# EAGLE library part B6B-XH (library con-JST)
JST XH series header 2.50mm pitch disconnectable crimp style connectors, vertical (side entry type), 6 pins
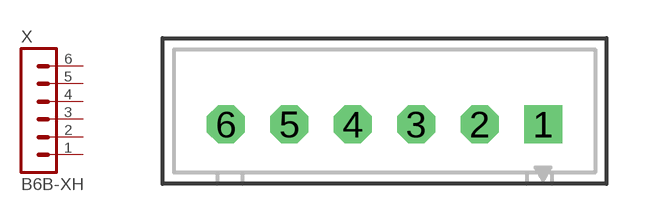
[diagram p0: symbol with the pads of B6B-XH-A; footprint B6B-XH-A]

Designator prefix X

## B6B-XH-A  [B6B-XH-A]
1  1  pas
2  2  pas
3  3  pas
4  4  pas
5  5  pas
6  6  pas

## B6B-XH-2  [B6B-XH-A]
Pads as for B6B-XH-A

## Footprint B6B-XH-A (pad centres in mm)
JST XH series header 2.50mm pitch disconnectable crimp style connectors, vertical (top entry type), 6 pins
drill 0.9 pad 1.5 square: 1 6.25,0
drill 0.9 pad 1.5 octagon: 2 3.75,0; 3 1.25,0; 4 -1.25,0; 5 -3.75,0; 6 -6.25,0